# Altium schematic symbol library 多功能数字电表.SCHLIB: 12 symbols
Pins are listed as number, name and electrical type; pins without a type are passive.

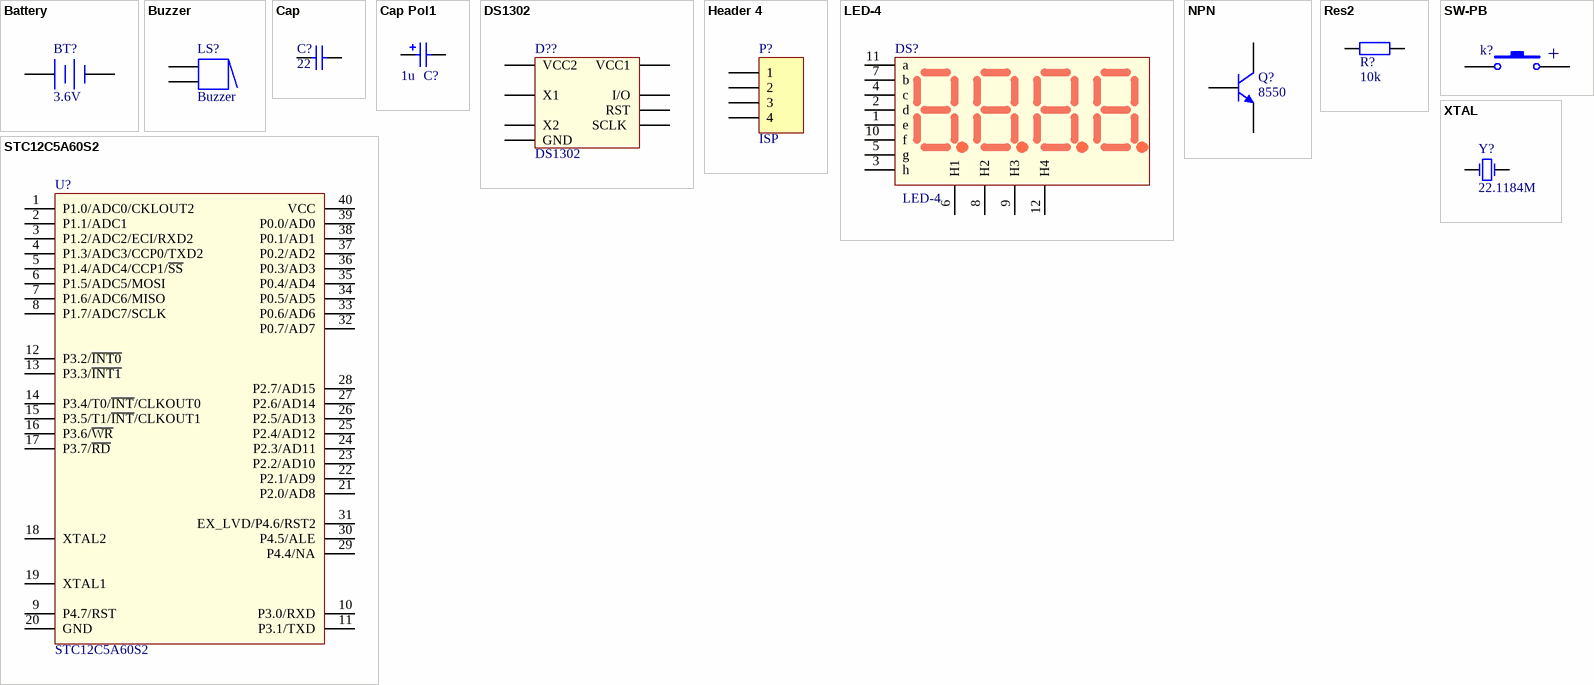
[diagram p0: symbols Battery to XTAL]

## Battery
designator BT?, comment 3.6V
Multicell Battery; Published: 24-Mar-1999; LatestRevisionDate: 17-Jul-2002; LatestRevisionNote: Re-released for DXP Platform.; PackageReference: BAT-2; Publisher: Altium Limited; PackageDescription: Battery; 2 Leads
footprint BAT-2 (Battery; 2 Leads)
pins: 1 +, 2 -

## Buzzer
designator LS?
Magnetic Transducer Buzzer; Published: 24-Mar-1999; LatestRevisionDate: 17-Dec-2003; LatestRevisionNote: Schematic revised, PCB Footprint replaced.; DatasheetVersion: 17-Dec-2003; PackageReference: ABSM-1574; Publisher: Altium Limited; PackageDescription: Magnetic Transducer Buzzer; ComponentLink1Description: Manufacturer Link; ComponentLink1URL: http://www.megastar.com/linecard/buzzmode/index.php
footprint ABSM-1574 (Magnetic Transducer Buzzer)
pins: 1, 2
1 alternate drawing of the same symbol

## Cap
designator C?, comment 22
Capacitor; Value: 100pF; Published: 8-Jun-2000; LatestRevisionDate: 17-Jul-2002; LatestRevisionNote: Re-released for DXP Platform.; PackageReference: RAD-0.3; Publisher: Altium Limited; PackageDescription: Radial Cap, Thru-Hole; 2 Leads; 0.3 in Pin Spacing
footprint RAD-0.3 (Radial Cap, Thru-Hole; 2 Leads; 0.3 in Pin Spacing)
simulation model CAP (Capacitor)
signal-integrity model Cap
pins: 1, 2

## Cap Pol1
designator C?, comment 1u
Polarized Capacitor (Radial); Value: 100pF; Published: 8-Jun-2000; LatestRevisionDate: 17-Jul-2002; LatestRevisionNote: Re-released for DXP Platform.; PackageReference: RB7.6-15; Publisher: Altium Limited; PackageDescription: Polarized Capacitor (Radial); 2 Leads
footprint RB7.6-15 (Polarized Capacitor (Radial); 2 Leads)
simulation model CAP (Capacitor)
signal-integrity model Cap Pol
pins: 1, 2
1 alternate drawing of the same symbol

## DS1302
designator D??
pins: 1 VCC2, 2 VCC1, 3 X1, 4 I/O, 5 X2, 6 SCLK , 7 GND, 8 RST

## Header 4
designator P?, comment ISP
Header, 4-Pin; LatestRevisionDate: 17-Jul-2002; LatestRevisionNote: Re-released for DXP Platform.; Publisher: Altium Limited
footprint HDR1X4 (Connector; Header; 4 Position)
signal-integrity model Connector
pins: 1, 2, 3, 4

## LED-4
designator DS?
pins: 1 e, 2 d, 3 h, 4 c, 5 g, 6 H1, 7 b, 8 H2, 9 H3, 10 f, 11 a, 12 H4

## NPN
designator Q?, comment 8550
NPN Bipolar Transistor; Published: 8-Jun-2000; LatestRevisionDate: 17-Jul-2002; LatestRevisionNote: Re-released for DXP Platform.; PackageReference: TO-226-AA; Publisher: Altium Limited; PackageDescription: TO, Flat Index; 3 In-Line, Axial Leads; Body Dia. 4.8mm; Leads 0.55 x 0.51 mm (max); Code_JEDEC: TO-226-AA
footprint TO-226-AA (TO, Flat Index; 3 In-Line, Axial Leads; Body Dia. 4.8mm; Leads 0.55 x 0.51 mm (max))
simulation model NPN
signal-integrity model NPN
pins: 1 C, 2 B, 3 E

## Res2
designator R?, comment 10k
Resistor; Value: 1K; Published: 8-Jun-2000; LatestRevisionDate: 17-Jul-2002; LatestRevisionNote: Re-released for DXP Platform.; PackageReference: AXIAL-0.4; Publisher: Altium Limited; PackageDescription: Axial Device, Thru-Hole; 2 Leads; 0.4 in Pin Spacing
footprint AXIAL-0.4 (Axial Device, Thru-Hole; 2 Leads; 0.4 in Pin Spacing)
simulation model RESISTOR (Resistor)
signal-integrity model Res
pins: 1, 2

## STC12C5A60S2
designator U?
pins: 1 P1.0/ADC0/CKLOUT2, 2 P1.1/ADC1, 3 P1.2/ADC2/ECI/RXD2, 4 P1.3/ADC3/CCP0/TXD2, 5 P1.4/ADC4/CCP1/~{SS}, 6 P1.5/ADC5/MOSI, 7 P1.6/ADC6/MISO, 8 P1.7/ADC7/SCLK, 9 P4.7/RST, 10 P3.0/RXD, 11 P3.1/TXD, 12 P3.2/~{INT0}, 13 P3.3/~{INT1}, 14 P3.4/T0/~{INT}/CLKOUT0, 15 P3.5/T1/~{INT}/CLKOUT1, 16 P3.6/~{WR}, 17 P3.7/~{RD}, 18 XTAL2, 19 XTAL1, 20 GND, 21 P2.0/AD8, 22 P2.1/AD9, 23 P2.2/AD10, 24 P2.3/AD11, 25 P2.4/AD12, 26 P2.5/AD13, 27 P2.6/AD14, 28 P2.7/AD15, 29 P4.4/NA, 30 P4.5/ALE, 31 EX_LVD/P4.6/RST2, 32 P0.7/AD7, 33 P0.6/AD6, 34 P0.5/AD5, 35 P0.4/AD4, 36 P0.3/AD3, 37 P0.2/AD2, 38 P0.1/AD1, 39 P0.0/AD0, 40 VCC

## SW-PB
designator k?, comment +
Switch; Published: 24-Mar-1999; LatestRevisionDate: 17-Jul-2002; LatestRevisionNote: Re-released for DXP Platform.; PackageReference: SPST-2; Publisher: Altium Limited; PackageDescription: Switch; 2 Leads
footprint SPST-2 (Switch; 2 Leads)
pins: 1, 2

## XTAL
designator Y?, comment 22.1184M
Crystal Oscillator; Published: 8-Jun-2000; LatestRevisionDate: 17-Jul-2002; LatestRevisionNote: Re-released for DXP Platform.; PackageReference: R38; Publisher: Altium Limited; PackageDescription: Crystal, Thru-Hole; 2 Leads; Body 3.1 x 8.2 mm (Dia.xH)
footprint R38 (Crystal, Thru-Hole; 2 Leads; Body 3.1 x 8.2 mm (Dia.xH))
simulation model XTAL (Spice Subcircuit)
pins: 1 OSC1, 2 OSC2